# Altium footprint library 5-102570-1.PcbLib: 1 footprints
Each footprint in its own frame and in the unit in brackets; x right, y up, seen from the top. Pads: shape width x height; smd on the part's side, far side on the other; paste and mask are expansions set on the pad; w line width, h text height; cw(c..) or ccw(c..) is an arc to the next point about the centre after c.
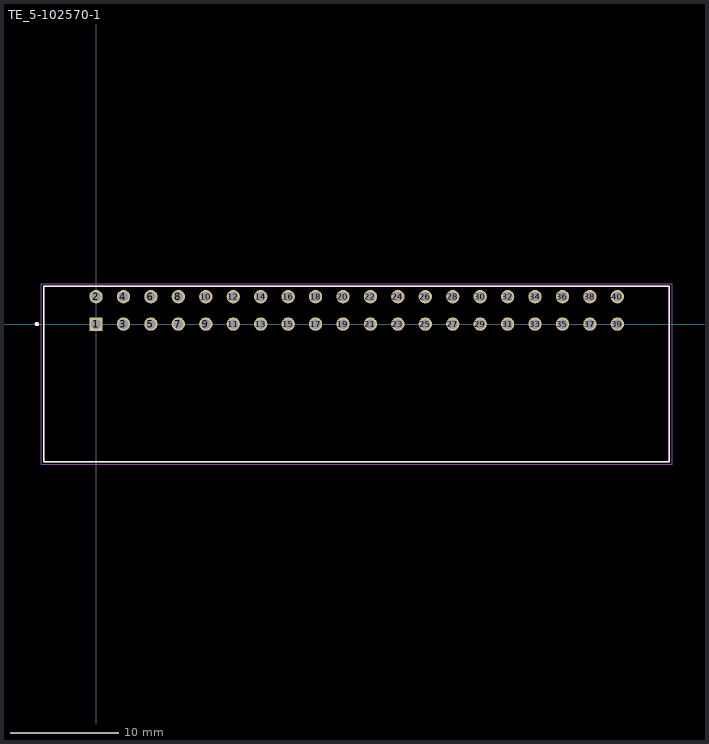
[diagram p0: the footprint, top view; thin cyan lines are the x and y axes]

## TE_5-102570-1 [mm]
pads (40):
  rect 1.24x1.24 hole 0.89: 1(0,0)
  round 1.24 hole 0.89: 2(0,2.54) 3(2.54,0) 4(2.54,2.54) 5(5.08,0) 6(5.08,2.54) 7(7.62,0) 8(7.62,2.54) 9(10.16,0) 10(10.16,2.54) 11(12.7,0) 12(12.7,2.54) 13(15.24,0) 14(15.24,2.54) 15(17.78,0) 16(17.78,2.54) 17(20.32,0) 18(20.32,2.54) 19(22.86,0) 20(22.86,2.54) 21(25.4,0) 22(25.4,2.54) 23(27.94,0) 24(27.94,2.54) 25(30.48,0) 26(30.48,2.54) 27(33.02,0) 28(33.02,2.54) 29(35.56,0) 30(35.56,2.54) 31(38.1,0) 32(38.1,2.54) 33(40.64,0) 34(40.64,2.54) 35(43.18,0) 36(43.18,2.54) 37(45.72,0) 38(45.72,2.54) 39(48.26,0) 40(48.26,2.54)
Top Overlay:
  circle w0.2: c-5.476,0 r0.1
  lines w0.127: -4.826,-12.738 -4.826,3.493 53.086,3.493 53.086,-12.738 -4.826,-12.738
Mechanical 13:
  circle w0.2: c-5.476,0 r0.1
  lines w0.127: -4.826,-12.738 -4.826,3.493 53.086,3.493 53.086,-12.738 ; -4.826,-12.738 53.086,-12.738 ; -4.826,-12.738 53.086,-12.738
Mechanical 15:
  lines w0.05: -5.076,-12.988 -5.076,3.743 53.336,3.743 53.336,-12.988 -5.076,-12.988
3D body "step_temp.STEP": height 5.08, standoff -8.83, extent -4.699,-12.802 53.213,3.429